# EAGLE library part CD74HC4067-SSOP (library open-ephys)
High-speed CMOS Logic 16:1 Analog MUX
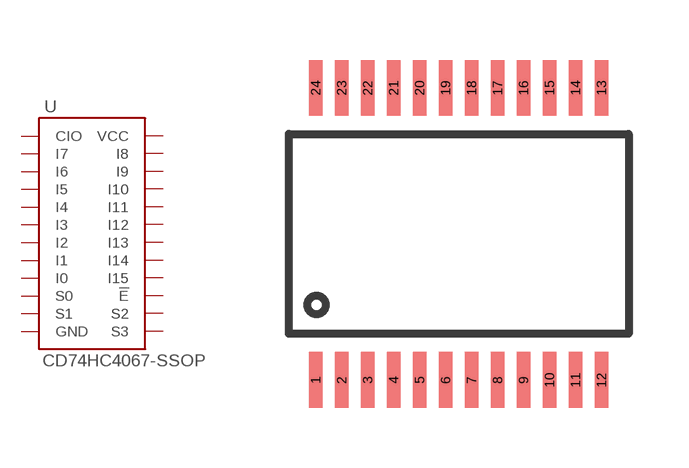
[diagram p17: symbol with the pads of SSOP24; footprint SSOP24]

Designator prefix U

## CD74HC4067-SSOPCD74HC4067  [SSOP24]
1  CIO
2  I7
3  I6
4  I5
5  I4
6  I3
7  I2
8  I1
9  I0
10  S0
11  S1
12  GND  pwr
13  S3
14  S2
15  !E
16  I15
17  I14
18  I13
19  I12
20  I11
21  I10
22  I9
23  I8
24  VCC  pwr

## Footprint SSOP24 (pad centres in mm)
smd 0.348 x 1.397: 1 -3.575,-3.656; 2 -2.925,-3.656; 3 -2.275,-3.656; 4 -1.625,-3.656; 5 -0.975,-3.656; 6 -0.325,-3.656; 7 0.325,-3.656; 8 0.975,-3.656; 9 1.625,-3.656; 10 2.275,-3.656; 11 2.925,-3.656; 12 3.575,-3.656; 13 3.575,3.656; 14 2.925,3.656; 15 2.275,3.656; 16 1.625,3.656; 17 0.975,3.656; 18 0.325,3.656; 19 -0.325,3.656; 20 -0.975,3.656; 21 -1.625,3.656; 22 -2.275,3.656; 23 -2.925,3.656; 24 -3.575,3.656